# EAGLE library part DS18030-100+ (library 2024-03-08_21-38-57_Library)
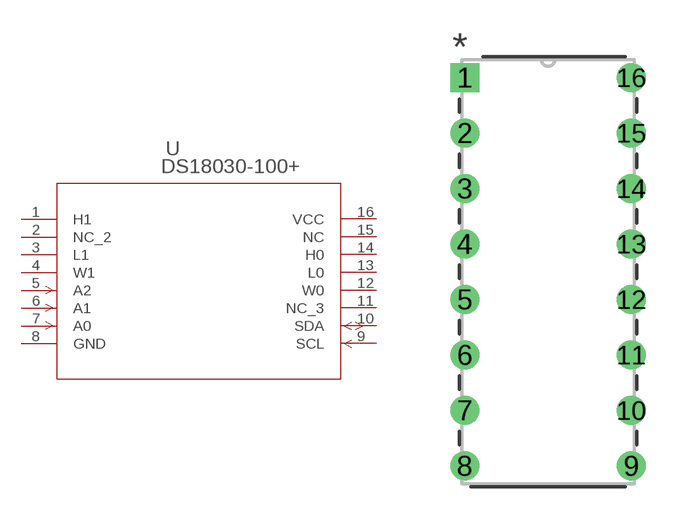
[diagram p0: symbol with the pads of 21-0043D_16_MXM; footprint 21-0043D_16_MXM]

Designator prefix U

## DS18030-100+21-0043D_16_MXM (Copyright: Copyright (C) 2024 Ultra Librarian. All rights reserved.; Manufacturer_Part_Number: DS18030-100+; Mfr_Name: Analog Devices / Maxim Integrated)  [21-0043D_16_MXM]
1  H1  pas
2  NC_2  nc
3  L1  pas
4  W1  pas
5  A2  in
6  A1  in
7  A0  in
8  GND  pwr
9  SCL  in
10  SDA
11  NC_3  nc
12  W0  pas
13  L0  pas
14  H0  pas
15  NC  nc
16  VCC  pwr

## Footprint 21-0043D_16_MXM (pad centres in mm)
drill 0.813 pad 1.321 square: 1 0,0
drill 0.813 pad 1.321 round: 2 0,-2.54; 3 0,-5.08; 4 0,-7.62; 5 0,-10.16; 6 0,-12.7; 7 0,-15.24; 8 0,-17.78; 9 7.62,-17.78; 10 7.62,-15.24; 11 7.62,-12.7; 12 7.62,-10.16; 13 7.62,-7.62; 14 7.62,-5.08; 15 7.62,-2.54; 16 7.62,0